# Altium schematic symbol library диоды.SchLib: 36 symbols
Pins are listed as number, name and electrical type; pins without a type are passive.

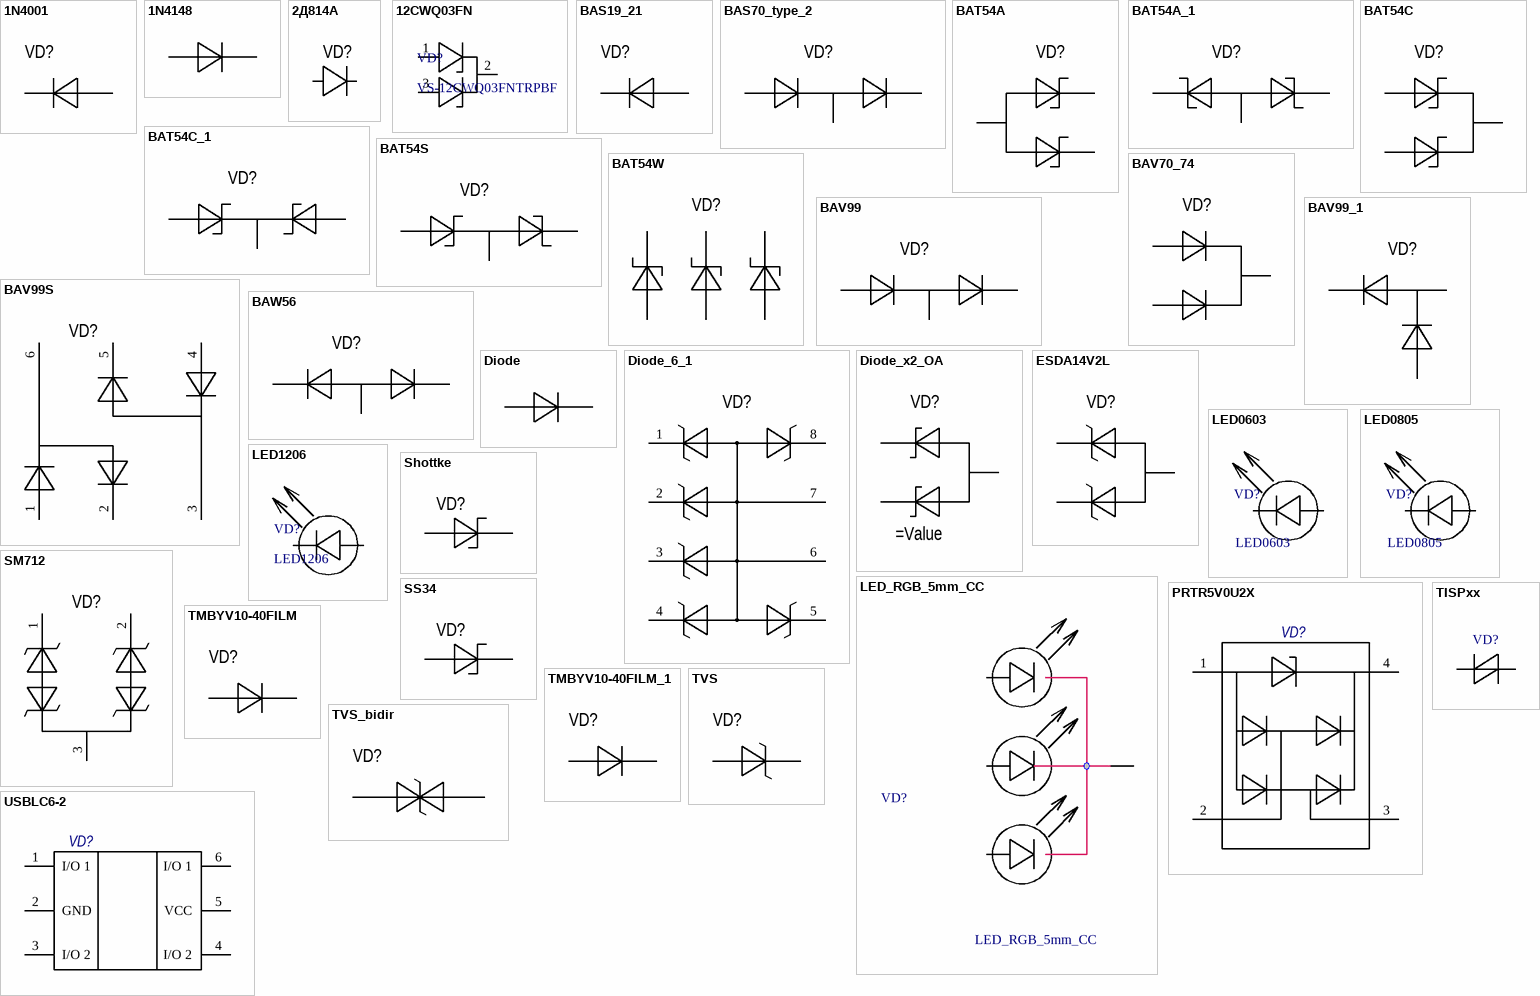
[diagram p0: symbols 1N4001 to USBLC6-2]

## 1N4001
designator VD?  (value not drawn)
footprint DO-41_Vertical
pins: 1, 2

## 1N4148
designator R?  (value not drawn)
Rem: *; Корпус: *; Value: *; Tolerance: *; Power/Voltage: *; TKE: *; ManufacturerPartNumber: *; Manufacturer: *; Quantity: *; Примечание: *
footprint 1N4148
pins: 1, 2

## 2Д814А
designator VD?  (value not drawn)
footprint КД3
pins: 1, 2

## 12CWQ03FN
designator VD?, comment VS-12CWQ03FNTRPBF
footprint TO252
pins: 1, 2, 3

## BAS19_21
designator VD?
footprint DO-41_Vertical
pins: 1, 3

## BAS70_type_2
designator VD?  (value not drawn)
BAV99
footprint SOT23-3
pins: 1, 2, 3

## BAT54A
designator VD?  (value not drawn)
footprint SOT23-3
pins: 1, 2, 3

## BAT54A_1
designator VD?, comment BAT54A  (value not drawn)
BAT54A_1
footprint SOT23-3
pins: 1, 2, 3

## BAT54C
designator VD?  (value not drawn)
footprint SOT23-3
pins: 1, 2, 3

## BAT54C_1
designator VD?  (value not drawn)
footprint SOT23-3
pins: 1, 2, 3

## BAT54S
designator VD?  (value not drawn)
footprint SOT23-3
pins: 1, 2, 3

## BAT54W
designator VD?  (value not drawn)
footprint SOT23-3
pins: 1, 2, 3, 4, 5, 6

## BAV70_74
designator VD?  (value not drawn)
footprint SOT23-3
pins: 1, 2, 3

## BAV99
designator VD?  (value not drawn)
footprint SOT23-3
pins: 1, 2, 3

## BAV99_1
designator VD?  (value not drawn)
BAV99
footprint SOT23-3
pins: 1, 2, 3

## BAV99S
designator VD?  (value not drawn)
footprint SOT23-3
pins: 1, 2, 3, 4, 5, 6

## BAW56
designator VD?  (value not drawn)
footprint SOT23-3
pins: 1, 2, 3

## Diode
designator VD?  (value not drawn)
pins: 1, 2

## Diode_6_1
designator VD?
pins: 1, 2, 3, 4, 5, 6, 7, 8

## Diode_x2_OA
designator VD?
Diode_x2_OA
pins: 1, 2, 3

## ESDA14V2L
designator VD?  (value not drawn)
footprint SOT23-3
pins: 1, 2, 3

## LED0603
designator VD?
footprint LED0805
footprint LED0603
pins: 1, 2

## LED0805
designator VD?
footprint LED0805
pins: 1, 2

## LED1206
designator VD?
footprint LED1206-GREEN
pins: 1, 2

## LED_RGB_5mm_CC
designator VD?
pins: 1, 2, 3, 4

## PRTR5V0U2X
designator VD?  (value not drawn)
pins: 1, 2, 3, 4

## Shottke
designator VD?
pins: 1, 2

## SM712
designator VD?
pins: 1, 2, 3

## SS34
designator VD?  (value not drawn)
footprint DO-214AB (DO-214AB, SMC)
pins: 1, 2

## TISPxx
designator VD?  (value not drawn)
Rem: *; Корпус: *; Value: *; Tolerance: *; Power/Voltage: *; TKE: *; ManufacturerPartNumber: *; Manufacturer: *; Quantity: *; Примечание: *
footprint DO-214AC_SMB
pins: 1, 2

## TMBYV10-40FILM
designator VD?  (value not drawn)
ChipDip: 9060000339
footprint MELF
pins: 1, 2

## TMBYV10-40FILM_1
designator VD?, comment TMBYV10-40FILM  (value not drawn)
ChipDip: 9060000339
footprint MELF
pins: 1, 2

## TVS
designator VD?
pins: 1, 2

## TVS_bidir
designator VD?
pins: 1, 2

## USBLC6-2
designator VD?  (value not drawn)
pins: 1 I/O 1, 2 GND, 3 I/O 2, 4 I/O 2, 5 VCC, 6 I/O 1

## РЫБА
designator R?  (value not drawn)
Rem: *; Корпус: *; Value: *; Tolerance: *; Power/Voltage: *; TKE: *; ManufacturerPartNumber: *; Manufacturer: *; Quantity: *; Примечание: *